# Altium integrated library ZMDI LED Drivers.IntLib: 15 symbols
Pins are listed as number, name and electrical type; pins without a type are passive.

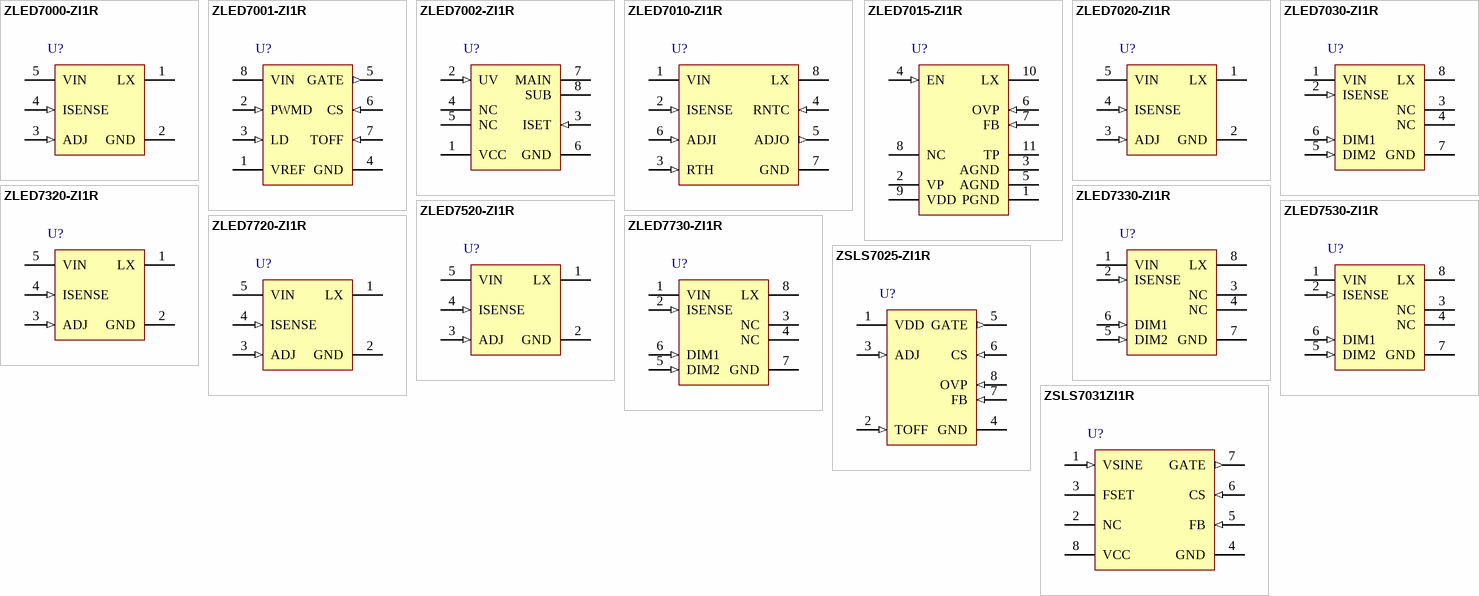
[diagram p0: symbols ZLED7000-ZI1R to ZSLS7031ZI1R]

## ZLED7000-ZI1R
designator U?
40 V LED Driver with Internal Switch, 6 to 40 V Supply Voltage, -40 to 85 degC, 5-Pin SOT89, Tape & Reel, RoHS; Manufacturer: ZMDI; PartNumber: ZLED7000-ZI1R; LED Current per Output (mA): 750; Number of Outputs: 1; Supply Voltage (V): 6 to 40; DatasheetVersion: Rev. 1.1; PackageReference: SOT89-5; PackageDescription: 5-Pin Plastic Small Outline, 4.5 x 2.45 mm Body, 1.5 mm Pitch; Supplier 1: Farnell; Supplier Part Number 1: 1898426RL; Supplier 2: Farnell; Supplier Part Number 2: 1898426; Supplier 3: Newark; Supplier Part Number 3: 55T4034; Package: SOT89-5; Packing: Tape & Reel; RoHS: TRUE; Mounting Technology: Surface Mount; ComponentLink1Description: Manufacturer URL; ComponentLink1URL: http://www.zmdi.com/; ComponentLink2Description: Datasheet; ComponentLink2URL: http://www.zmdi.com/sites/default/files/ZLED7000_DataSheet_Rev1.1.pdf; ComponentLink3Description: Package Specification; ComponentLink3URL: http://www.zmdi.com/sites/default/files/ZLED7020_Data_Sheet_rev1.2_01.pdf
footprint ZMDI-SOT89-5_V (SOT, 5-Leads, Body 4.6x2.6mm, Pitch 1.5mm)
pins: 1 LX (power) "Power switch drain", 2 GND (power) "Ground (0V)", 3 ADJ (in) "Output current control pin", 4 ISENSE (in) "Nominal average output current is set by the value of a resistor RS connected from ISENSE to VIN", 5 VIN (power) "Supply voltage (6V to 40V)"

## ZLED7001-ZI1R
designator U?
Universal LED Driver with Temperature Compensation, 8 to 450 V Supply Voltage, -40 to 85 degC, 8-Pin SOP, Tape & Reel, RoHS; Manufacturer: ZMDI; PartNumber: ZLED7001-ZI1R; Number of Outputs: 1; Supply Voltage (V): 8 to 450; DatasheetVersion: Rev. 1.1; PackageReference: SOP-8; PackageDescription: 8-Pin Plastic Small Outline, 4.9 x 3.9 mm Body, 1.27 mm Pitch; Supplier 1: Farnell; Supplier Part Number 1: 1898430; Supplier 2: Newark; Supplier Part Number 2: 55T4035; Supplier 3: Mouser; Supplier Part Number 3: 964-ZLED7001ZI1R; Package: SOP8; Packing: Tape & Reel; RoHS: TRUE; Mounting Technology: Surface Mount; ComponentLink1Description: Manufacturer URL; ComponentLink1URL: http://www.zmdi.com/; ComponentLink2Description: Datasheet; ComponentLink2URL: http://www.zmdi.com/sites/default/files/ZLED7001_Data_Sheet_Rev_1.1.pdf; ComponentLink3Description: Package Specification; ComponentLink3URL: http://www.zmdi.com/sites/default/files/ZLED7001_Data_Sheet_Rev_1.1.pdf
footprint ZMDI-SOP-8_N (SOP, 8-Leads, Body 5x4mm, Pitch 1.27mm, IPC Medium Density)
footprint ZMDI-SOP-8_L (SOP, 8-Leads, Body 5x4mm, Pitch 1.27mm, IPC High Density)
footprint ZMDI-SOP-8_M (SOP, 8-Leads, Body 5x4mm, Pitch 1.27mm, IPC Low Density)
pins: 1 VREF "1.2V reference voltage. No bypass capacitor needed.", 2 PWMD (in) "PWM dimming input. The gate driver operates normally if PWMD is pulled high. The gate driver is turned off if PWMD is pulled to GND or open.", 3 LD (in) "Linear dimming input. If the voltage at LD is < 240mV (typical), LD controls the current sense threshold. Can also be used as temperature compensation threshold voltage.", 4 GND (power) "Internal circuit ground reference. Electrical connection to ground is required.", 5 GATE (out) "Output for external N-channel power MOSFET gate driver.", 6 CS (in) "Current sense pin that senses the Q1 MOSFET drain current through external resistor RCS. The GATE output goes low if the voltage at CS > the voltage at the LD pin or the internal 240mV.", 7 TOFF (in) "Sets the off-time of the power MOSFET. If left floating, off-time will be 510ns. For increased off-time, a capacitor must be connected between TOFF and GND.", 8 VIN (power) "Supply input of 8V to 450V through a resistor, clamped at 7.1V internally. Low-ESR bypass capacitor to GND is required."

## ZLED7002-ZI1R
designator U?
Toggle (Side-Step) Dual-Channel LED Driver, 2.7 to 5.5 V Supply Voltage, -25 to 85 degC, 8-Pin SOP, Tape & Reel, RoHS; Manufacturer: ZMDI; PartNumber: ZLED7002-ZI1R; Number of Outputs: 2; DatasheetVersion: Rev. 3.0; PackageReference: SOP-8; PackageDescription: 8-Pin Plastic Small Outline, 4.9 x 3.9 mm Body, 1.27 mm Pitch; Supplier 1: Farnell; Supplier Part Number 1: 1962064; Package: SOP8; Packing: Tape & Reel; RoHS: TRUE; Supply Voltage (V): 2.7 to 5.5; Mounting Technology: Surface Mount; ComponentLink1Description: Manufacturer URL; ComponentLink1URL: http://www.zmdi.com/; ComponentLink2Description: Datasheet; ComponentLink2URL: http://www.zmdi.com/sites/default/files/ZLED7002_Data_Sheet_v3_02.pdf; ComponentLink3Description: Package Specification; ComponentLink3URL: http://www.zmdi.com/sites/default/files/ZLED7001_Data_Sheet_Rev_1.1.pdf
footprint ZMDI-SOP-8_N (SOP, 8-Leads, Body 5x4mm, Pitch 1.27mm, IPC Medium Density)
footprint ZMDI-SOP-8_L (SOP, 8-Leads, Body 5x4mm, Pitch 1.27mm, IPC High Density)
footprint ZMDI-SOP-8_M (SOP, 8-Leads, Body 5x4mm, Pitch 1.27mm, IPC Low Density)
pins: 1 VCC (power) "Power supply (2.7V to 5.5V).", 2 UV (in) "Under-voltage detection input.", 3 ISET (in) "Input for external resistor that sets the current for the MAIN LED channel.", 4 NC "No connection.", 5 NC "No connection.", 6 GND (power) "Connect to ground.", 7 MAIN (power) "MAIN channel constant current source. Connect to cathode of MAIN LED.", 8 SUB (power) "SUB channel current sink. Connect to cathode of D1 (Zener diode) connected to cathode of SUB LED."

## ZLED7010-ZI1R
designator U?
40 V LED Driver with Temperature Compensation, 6 to 40 V Supply Voltage, -40 to 85 degC, 8-Pin SOP, Tape & Reel, RoHS; Manufacturer: ZMDI; PartNumber: ZLED7010-ZI1R; LED Current per Output (mA): 750; Number of Outputs: 1; Supply Voltage (V): 6 to 40; DatasheetVersion: Rev. 1.1; PackageReference: SOP-8; PackageDescription: 8-Pin Plastic Small Outline, 4.9 x 3.9 mm Body, 1.27 mm Pitch; Supplier 1: Farnell; Supplier Part Number 1: 1898427; Supplier 2: Newark; Supplier Part Number 2: 55T4036; Package: SOP-8; Packing: Tape & Reel; RoHS: TRUE; Mounting Technology: Surface Mount; ComponentLink1Description: Manufacturer URL; ComponentLink1URL: http://www.zmdi.com/; ComponentLink2Description: Datasheet; ComponentLink2URL: http://www.zmdi.com/sites/default/files/ZLED7010_DataSheet_Rev_1.1.pdf; ComponentLink3Description: Package Specification; ComponentLink3URL: http://www.zmdi.com/sites/default/files/ZLED7001_Data_Sheet_Rev_1.1.pdf
footprint ZMDI-SOP-8_N (SOP, 8-Leads, Body 5x4mm, Pitch 1.27mm, IPC Medium Density)
footprint ZMDI-SOP-8_L (SOP, 8-Leads, Body 5x4mm, Pitch 1.27mm, IPC High Density)
footprint ZMDI-SOP-8_M (SOP, 8-Leads, Body 5x4mm, Pitch 1.27mm, IPC Low Density)
pins: 1 VIN (power) "Supply voltage (6V to 40V)", 2 ISENSE (in) "Nominal average output current is set by the value of a resistor RS connected from ISENSE to VIN.", 3 RTH (in) "Threshold input from external temperature sensing network. Sets the starting temperature of temperature compensation via an external resistor.", 4 RNTC (in) "NTC input from external temperature sensing network.", 5 ADJO (out) "Output for control signal for LED driver chain applications", 6 ADJI (in) "Output current control pin", 7 GND (power) "Ground (0V)", 8 LX (power) "Power switch drain"

## ZLED7015-ZI1R
designator U?
1.0 MHz Boost Converter with Internal 35 V Switch, 6 to 30 V Supply Voltage, -40 to 85 degC, 10-Pin MSOP, Tape & Reel, RoHS; Manufacturer: ZMDI; PartNumber: ZLED7015-ZI1R; Number of Outputs: 1; Supply Voltage (V): 6 to 30; DatasheetVersion: Rev. 1.00; PackageReference: MSOP-10; PackageDescription: 10-Pin Mini Small Outline Package, 3 x 3 mm Body, 0.5 mm Pitch, 1.8 x 1.55 mm Exposed Pad; Supplier 1: Farnell; Supplier Part Number 1: 2094167; Supplier 2: Newark; Supplier Part Number 2: 89T9203; Package: MSOP-10; Packing: Tape & Reel; RoHS: TRUE; Mounting Technology: Surface Mount; ComponentLink1Description: Manufacturer URL; ComponentLink1URL: http://www.zmdi.com/; ComponentLink2Description: Datasheet; ComponentLink2URL: http://www.zmdi.com/sites/default/files/ZLED7015_Data_Sheet_Rev1_00.pdf; ComponentLink3Description: Package Specification; ComponentLink3URL: http://www.zmdi.com/sites/default/files/ZLED7015_Data_Sheet_Rev1_00.pdf
footprint ZMDI-MSOP-10_N (SOP, 10-Leads, Body 3.1x3.1mm, Pitch 0.5mm, Thermal Pad 1.8x1.55mm, IPC Medium Density)
footprint ZMDI-MSOP-10_L (SOP, 10-Leads, Body 3.1x3.1mm, Pitch 0.5mm, Thermal Pad 1.8x1.55mm, IPC High Density)
footprint ZMDI-MSOP-10_M (SOP, 10-Leads, Body 3.1x3.1mm, Pitch 0.5mm, Thermal Pad 1.8x1.55mm, IPC Low Density)
pins: 1 PGND (power) "Power ground", 2 VP (power) "Internal 5V linear regulator output. VP is the power supply for the internal switch gate driver and the internal control circuitry. Use a 10uF ceramic bypass capacitor between VP and ground.", 3 AGND (power) "Analog (signal) ground.", 4 EN (in) "Enable control input. Important: Do not allow this pin to float.", 5 AGND (power) "Analog (signal) ground.", 6 OVP (in) "Over-voltage protection control input.", 7 FB (in) "Feedback voltage input. The nominal average output current is set by the value of RS connected from FB to GND - see section 2.2.1 for details. Important: Do not allow the FB pin to float.", 8 NC "No connection", 9 VDD (power) "Supply voltage (6V to 30V)-see section 7 for layout considerations.", 10 LX (power) "Drain of the internal switch. Connect the power inductor between LX and the power supply. Connect the output rectifier D1 between LX and the output circuit. See section1.1 for output range specifications.", 11 TP (power) "Connect to ground."

## ZLED7020-ZI1R
designator U?
High Current 40 V LED Driver with Internal Switch, 6 to 40 V Supply Voltage, -40 to 105 degC, 5-Pin SOT89, Tape & Reel, RoHS; Manufacturer: ZMDI; PartNumber: ZLED7020-ZI1R; LED Current per Output (mA): 1200; Number of Outputs: 1; Supply Voltage (V): 6 to 40; DatasheetVersion: Rev. 1.2; PackageReference: SOT89-5; PackageDescription: 5-Pin Plastic Small Outline, 4.5 x 2.45 mm Body, 1.5 mm Pitch; Supplier 1: Farnell; Supplier Part Number 1: 1898428; Supplier 2: Newark; Supplier Part Number 2: 55T4038; Package: SOT89-5; Packing: Tape & Reel; RoHS: TRUE; Mounting Technology: Surface Mount; ComponentLink1Description: Manufacturer URL; ComponentLink1URL: http://www.zmdi.com/; ComponentLink2Description: Datasheet; ComponentLink2URL: http://www.zmdi.com/sites/default/files/ZLED7020_Data_Sheet_rev1.2_01.pdf; ComponentLink3Description: Package Specification; ComponentLink3URL: http://www.zmdi.com/sites/default/files/ZLED7020_Data_Sheet_rev1.2_01.pdf
footprint ZMDI-SOT89-5_V (SOT, 5-Leads, Body 4.6x2.6mm, Pitch 1.5mm)
pins: 1 LX (power) "Drain of internal power switch", 2 GND (power) "Ground", 3 ADJ (in) "On/off and brightness control input", 4 ISENSE (in) "Current adjustment input. Resistor RS from ISENSE to VIN determines the nominal average output current. IOUTnom =0.1V/RS", 5 VIN (power) "Input voltage (6V to 40V)."

## ZLED7030-ZI1R
designator U?
High Current 40 V LED Driver with Switch Dimming, 8.5 to 40 V Supply Voltage, -40 to 105 degC, 8-Pin SOP, Tape & Reel, RoHS; Manufacturer: ZMDI; PartNumber: ZLED7030-ZI1R; LED Current per Output (mA): 1200; Number of Outputs: 1; DatasheetVersion: Rev. 1.2; PackageReference: SOP-8; PackageDescription: 8-Pin Plastic Small Outline, 4.9 x 3.9 mm Body, 1.27 mm Pitch; Supplier 1: Farnell; Supplier Part Number 1: 1898429; Supplier 2: Newark; Supplier Part Number 2: 55T4040; Package: SOP-8; Packing: Tape & Reel; RoHS: TRUE; Supply Voltage (V): 8.5 to 40; Mounting Technology: Surface Mount; ComponentLink1Description: Manufacturer URL; ComponentLink1URL: http://www.zmdi.com/; ComponentLink2Description: Datasheet; ComponentLink2URL: http://www.zmdi.com/sites/default/files/ZLED7030_Data_Sheet_rev1.2.pdf; ComponentLink3Description: Package Specification; ComponentLink3URL: http://www.zmdi.com/sites/default/files/ZLED7001_Data_Sheet_Rev_1.1.pdf
footprint ZMDI-SOP-8_N (SOP, 8-Leads, Body 5x4mm, Pitch 1.27mm, IPC Medium Density)
footprint ZMDI-SOP-8_L (SOP, 8-Leads, Body 5x4mm, Pitch 1.27mm, IPC High Density)
footprint ZMDI-SOP-8_M (SOP, 8-Leads, Body 5x4mm, Pitch 1.27mm, IPC Low Density)
pins: 1 VIN (power) "Input voltage (8.5V to 40V).", 2 ISENSE (in) "Current adjustment input. Resistor RS from ISENSE to VIN determines the nominal average output current. IOUTnom =0.1V/RS", 3 NC "Not connected; keep floating.", 4 NC "Not connected; keep floating.", 5 DIM2 (in) "Set the number of current levels and current ratio of each level of switch dimming function as follows", 6 DIM1 (in) "Set the number of current levels and current ratio of each level of switch dimming function as follows", 7 GND (power) "Connect to GND.", 8 LX (power) "Drain of internal power switch"

## ZLED7320-ZI1R
designator U?
High Current 40 V LED Driver with Internal Switch, 6 to 40 V Supply Voltage, -40 to 105 degC, 5-Pin DFN, Tape & Reel, RoHS; Manufacturer: ZMDI; PartNumber: ZLED7320-ZI1R; LED Current per Output (mA): 1000; Number of Outputs: 1; Supply Voltage (V): 6 to 40; DatasheetVersion: Rev. 1.2; PackageReference: DFN-5; PackageDescription: 5-Pin Dual Flatpack No Leads, 4 x 4 mm Body, 1.5 mm Pitch; Supplier 1: Farnell; Supplier Part Number 1: 1962065RL; Supplier 2: Farnell; Supplier Part Number 2: 1962065; Supplier 3: Newark; Supplier Part Number 3: 58T2356; Package: DFN-5; Packing: Tape & Reel; RoHS: TRUE; Mounting Technology: Surface Mount; ComponentLink1Description: Manufacturer URL; ComponentLink1URL: http://www.zmdi.com/; ComponentLink2Description: Datasheet; ComponentLink2URL: http://www.zmdi.com/sites/default/files/ZLED7020_Data_Sheet_rev1.2_01.pdf; ComponentLink3Description: Package Specification; ComponentLink3URL: http://www.zmdi.com/sites/default/files/ZLED7020_Data_Sheet_rev1.2_01.pdf
footprint ZMDI-DFN-5_V (DFN, 5-Leads, Body 4.05x4.05mm, Pitch 1.5mm)
pins: 1 LX (power) "Drain of internal power switch", 2 GND (power) "Ground", 3 ADJ (in) "On/off and brightness control input", 4 ISENSE (in) "Current adjustment input. Resistor RS from ISENSE to VIN determines the nominal average output current. IOUTnom =0.1V/RS", 5 VIN (power) "Input voltage (6V to 40V)."

## ZLED7330-ZI1R
designator U?
High Current 40 V LED Driver with Switch Dimming, 8.5 to 40 V Supply Voltage, -40 to 105 degC, 8-Pin SOP, Tape & Reel, RoHS; Manufacturer: ZMDI; PartNumber: ZLED7330-ZI1R; LED Current per Output (mA): 1000; Number of Outputs: 1; DatasheetVersion: Rev. 1.2; PackageReference: SOP-8; PackageDescription: 8-Pin Plastic Small Outline, 4.9 x 3.9 mm Body, 1.27 mm Pitch; Supplier 1: Farnell; Supplier Part Number 1: 1962066; Package: SOP-8; Packing: Tape & Reel; RoHS: TRUE; Supply Voltage (V): 8.5 to 40; Mounting Technology: Surface Mount; ComponentLink1Description: Manufacturer URL; ComponentLink1URL: http://www.zmdi.com/; ComponentLink2Description: Datasheet; ComponentLink2URL: http://www.zmdi.com/sites/default/files/ZLED7030_Data_Sheet_rev1.2.pdf; ComponentLink3Description: Package Specification; ComponentLink3URL: http://www.zmdi.com/sites/default/files/ZLED7001_Data_Sheet_Rev_1.1.pdf
footprint ZMDI-SOP-8_N (SOP, 8-Leads, Body 5x4mm, Pitch 1.27mm, IPC Medium Density)
footprint ZMDI-SOP-8_L (SOP, 8-Leads, Body 5x4mm, Pitch 1.27mm, IPC High Density)
footprint ZMDI-SOP-8_M (SOP, 8-Leads, Body 5x4mm, Pitch 1.27mm, IPC Low Density)
pins: 1 VIN (power) "Input voltage (8.5V to 40V).", 2 ISENSE (in) "Current adjustment input. Resistor RS from ISENSE to VIN determines the nominal average output current. IOUTnom =0.1V/RS", 3 NC "Not connected; keep floating.", 4 NC "Not connected; keep floating.", 5 DIM2 (in) "Set the number of current levels and current ratio of each level of switch dimming function as follows", 6 DIM1 (in) "Set the number of current levels and current ratio of each level of switch dimming function as follows", 7 GND (power) "Connect to GND.", 8 LX (power) "Drain of internal power switch"

## ZLED7520-ZI1R
designator U?
High Current 40 V LED Driver with Internal Switch, 6 to 40 V Supply Voltage, -40 to 105 degC, 5-Pin DFN, Tape & Reel, RoHS; Manufacturer: ZMDI; PartNumber: ZLED7520-ZI1R; LED Current per Output (mA): 750; Number of Outputs: 1; Supply Voltage (V): 6 to 40; DatasheetVersion: Rev. 1.2; PackageReference: DFN-5; PackageDescription: 5-Pin Dual Flatpack No Leads, 4 x 4 mm Body, 1.5 mm Pitch; Supplier 1: Farnell; Supplier Part Number 1: 2068101; Supplier 2: Newark; Supplier Part Number 2: 74T0220; Package: DFN-5; Packing: Tape & Reel; RoHS: TRUE; Mounting Technology: Surface Mount; ComponentLink1Description: Manufacturer URL; ComponentLink1URL: http://www.zmdi.com/; ComponentLink2Description: Datasheet; ComponentLink2URL: http://www.zmdi.com/sites/default/files/ZLED7020_Data_Sheet_rev1.2_01.pdf; ComponentLink3Description: Package Specification; ComponentLink3URL: http://www.zmdi.com/sites/default/files/ZLED7020_Data_Sheet_rev1.2_01.pdf
footprint ZMDI-DFN-5_V (DFN, 5-Leads, Body 4.05x4.05mm, Pitch 1.5mm)
pins: 1 LX (power) "Drain of internal power switch", 2 GND (power) "Ground", 3 ADJ (in) "On/off and brightness control input", 4 ISENSE (in) "Current adjustment input. Resistor RS from ISENSE to VIN determines the nominal average output current. IOUTnom =0.1V/RS", 5 VIN (power) "Input voltage (6V to 40V)."

## ZLED7530-ZI1R
designator U?
High Current 40 V LED Driver with Switch Dimming, 8.5 to 40 V Supply Voltage, -40 to 105 degC, 8-Pin SOP, Tape & Reel, RoHS; Manufacturer: ZMDI; PartNumber: ZLED7530-ZI1R; LED Current per Output (mA): 750; Number of Outputs: 1; DatasheetVersion: Rev. 1.2; PackageReference: SOP-8; PackageDescription: 8-Pin Plastic Small Outline, 4.9 x 3.9 mm Body, 1.27 mm Pitch; Supplier 1: Farnell; Supplier Part Number 1: 2068104; Package: SOP-8; Packing: Tape & Reel; RoHS: TRUE; Supply Voltage (V): 8.5 to 40; Mounting Technology: Surface Mount; ComponentLink1Description: Manufacturer URL; ComponentLink1URL: http://www.zmdi.com/; ComponentLink2Description: Datasheet; ComponentLink2URL: http://www.zmdi.com/sites/default/files/ZLED7030_Data_Sheet_rev1.2.pdf; ComponentLink3Description: Package Specification; ComponentLink3URL: http://www.zmdi.com/sites/default/files/ZLED7001_Data_Sheet_Rev_1.1.pdf
footprint ZMDI-SOP-8_N (SOP, 8-Leads, Body 5x4mm, Pitch 1.27mm, IPC Medium Density)
footprint ZMDI-SOP-8_L (SOP, 8-Leads, Body 5x4mm, Pitch 1.27mm, IPC High Density)
footprint ZMDI-SOP-8_M (SOP, 8-Leads, Body 5x4mm, Pitch 1.27mm, IPC Low Density)
pins: 1 VIN (power) "Input voltage (8.5V to 40V).", 2 ISENSE (in) "Current adjustment input. Resistor RS from ISENSE to VIN determines the nominal average output current. IOUTnom =0.1V/RS", 3 NC "Not connected; keep floating.", 4 NC "Not connected; keep floating.", 5 DIM2 (in) "Set the number of current levels and current ratio of each level of switch dimming function as follows", 6 DIM1 (in) "Set the number of current levels and current ratio of each level of switch dimming function as follows", 7 GND (power) "Connect to GND.", 8 LX (power) "Drain of internal power switch"

## ZLED7720-ZI1R
designator U?
High Current 40 V LED Driver with Internal Switch, 6 to 40 V Supply Voltage, -40 to 105 degC, 5-Pin DFN, Tape & Reel, RoHS; Manufacturer: ZMDI; PartNumber: ZLED7720-ZI1R; LED Current per Output (mA): 350; Number of Outputs: 1; Supply Voltage (V): 6 to 40; DatasheetVersion: Rev. 1.2; PackageReference: DFN-5; PackageDescription: 5-Pin Dual Flatpack No Leads, 4 x 4 mm Body, 1.5 mm Pitch; Supplier 1: Farnell; Supplier Part Number 1: 2068103RL; Supplier 2: Farnell; Supplier Part Number 2: 2068103; Supplier 3: Newark; Supplier Part Number 3: 74T0222; Package: DFN-5; Packing: Tape & Reel; RoHS: TRUE; Mounting Technology: Surface Mount; ComponentLink1Description: Manufacturer URL; ComponentLink1URL: http://www.zmdi.com/; ComponentLink2Description: Datasheet; ComponentLink2URL: http://www.zmdi.com/sites/default/files/ZLED7020_Data_Sheet_rev1.2_01.pdf; ComponentLink3Description: Package Specification; ComponentLink3URL: http://www.zmdi.com/sites/default/files/ZLED7020_Data_Sheet_rev1.2_01.pdf
footprint ZMDI-DFN-5_V (DFN, 5-Leads, Body 4.05x4.05mm, Pitch 1.5mm)
pins: 1 LX (power) "Drain of internal power switch", 2 GND (power) "Ground", 3 ADJ (in) "On/off and brightness control input", 4 ISENSE (in) "Current adjustment input. Resistor RS from ISENSE to VIN determines the nominal average output current. IOUTnom =0.1V/RS", 5 VIN (power) "Input voltage (6V to 40V)."

## ZLED7730-ZI1R
designator U?
High Current 40 V LED Driver with Switch Dimming, 8.5 to 40 V Supply Voltage, -40 to 105 degC, 8-Pin SOP, Tape & Reel, RoHS; Manufacturer: ZMDI; PartNumber: ZLED7730-ZI1R; LED Current per Output (mA): 350; Number of Outputs: 1; DatasheetVersion: Rev. 1.2; PackageReference: SOP-8; PackageDescription: 8-Pin Plastic Small Outline, 4.9 x 3.9 mm Body, 1.27 mm Pitch; Supplier 1: Farnell; Supplier Part Number 1: 2068105; Package: SOP-8; Packing: Tape & Reel; RoHS: TRUE; Supply Voltage (V): 8.5 to 40; Mounting Technology: Surface Mount; ComponentLink1Description: Manufacturer URL; ComponentLink1URL: http://www.zmdi.com/; ComponentLink2Description: Datasheet; ComponentLink2URL: http://www.zmdi.com/sites/default/files/ZLED7030_Data_Sheet_rev1.2.pdf; ComponentLink3Description: Package Specification; ComponentLink3URL: http://www.zmdi.com/sites/default/files/ZLED7001_Data_Sheet_Rev_1.1.pdf
footprint ZMDI-SOP-8_N (SOP, 8-Leads, Body 5x4mm, Pitch 1.27mm, IPC Medium Density)
footprint ZMDI-SOP-8_L (SOP, 8-Leads, Body 5x4mm, Pitch 1.27mm, IPC High Density)
footprint ZMDI-SOP-8_M (SOP, 8-Leads, Body 5x4mm, Pitch 1.27mm, IPC Low Density)
pins: 1 VIN (power) "Input voltage (8.5V to 40V).", 2 ISENSE (in) "Current adjustment input. Resistor RS from ISENSE to VIN determines the nominal average output current. IOUTnom =0.1V/RS", 3 NC "Not connected; keep floating.", 4 NC "Not connected; keep floating.", 5 DIM2 (in) "Set the number of current levels and current ratio of each level of switch dimming function as follows", 6 DIM1 (in) "Set the number of current levels and current ratio of each level of switch dimming function as follows", 7 GND (power) "Connect to GND.", 8 LX (power) "Drain of internal power switch"

## ZSLS7025-ZI1R
designator U?
Boost LED Driver, 5 to 100 V Supply Voltage, -40 to 125 degC, 8-Pin SOP, Tape & Reel, RoHS; Manufacturer: ZMDI; PartNumber: ZSLS7025-ZI1R; Number of Outputs: 1; Supply Voltage (V): 5 to 100; DatasheetVersion: Rev. 1.00; PackageReference: SOP-8; PackageDescription: 8-Pin Plastic Small Outline, 4.9 x 3.9 mm Body, 1.27 mm Pitch; Supplier 1: Farnell; Supplier Part Number 1: 2143146; Supplier 2: Mouser; Supplier Part Number 2: 964-ZSLS7025ZI1R; Package: SOP8; Packing: Tape & Reel; RoHS: TRUE; Mounting Technology: Surface Mount; ComponentLink1Description: Manufacturer URL; ComponentLink1URL: http://www.zmdi.com/; ComponentLink2Description: Datasheet; ComponentLink2URL: http://www.zmdi.com/sites/default/files/ZSLS7025_Data_Sheet_rev1_00.pdf; ComponentLink3Description: Package Specification; ComponentLink3URL: http://www.zmdi.com/sites/default/files/ZLED7001_Data_Sheet_Rev_1.1.pdf
footprint ZMDI-SOP-8_N (SOP, 8-Leads, Body 5x4mm, Pitch 1.27mm, IPC Medium Density)
footprint ZMDI-SOP-8_L (SOP, 8-Leads, Body 5x4mm, Pitch 1.27mm, IPC High Density)
footprint ZMDI-SOP-8_M (SOP, 8-Leads, Body 5x4mm, Pitch 1.27mm, IPC Low Density)
pins: 1 VDD (power) "Positive power supply input pin. Internally clamped at 5V (typical).", 2 TOFF (in) "Pin for setting off time. An external resistor, RTOFF, connected to this pin forms an RC discharge path to generate the constant minimum off time of the Q1 external MOSFET.", 3 ADJ (in) "Enable and input peak current control pin. This pin is pulled up to 4.5V internally to set VCS_TH =0.24V if ADJ is floating. If VADJ<0.5V, the Q1 external MOSFET shuts down. If 0.5 ? VADJ ? 2.4V, VCS_TH = VADJ/10.(See Datasheet)", 4 GND (power) "Ground.", 5 GATE (out) "Driver抯 output for the gate of the Q1 external MOSFET.", 6 CS (in) "Current sense input for the boost, peak-current control loop.", 7 FB (in) "Feedback voltage input pin. Used to regulate the current of the LEDs by keeping VFB=0.3V.", 8 OVP (in) "Overvoltage protection input pin. If the voltage at OVP exceeds the over-voltage input threshold, VOVP_TH, the GATE output shuts down."

## ZSLS7031ZI1R
designator U?
Isolated and Non-isolated Flyback LED Driver with Active PFC, 9 to 22 V Supply Voltage, -45 to 105 degC, 8-Pin MSOP, Tape & Reel, RoHS; Manufacturer: ZMDI; PartNumber: ZSLS7031ZI1R; Number of Outputs: 1; Supply Voltage (V): 9 to 22; DatasheetVersion: Rev. 1.00; PackageReference: MSOP-8; PackageDescription: 8-Pin Mini Small Outline Package, 3 x 3 mm Body, 0.65 mm Pitch; Supplier 1: Mouser; Supplier Part Number 1: 964-ZSLS7031ZI1R; Package: MSOP-8; Packing: Tape & Reel; RoHS: TRUE; Mounting Technology: Surface Mount; ComponentLink1Description: Manufacturer URL; ComponentLink1URL: http://www.zmdi.com/; ComponentLink2Description: Datasheet; ComponentLink2URL: http://zmdi.cdistore.com/datasheets/zmdi/ZSLS7031_Data_Sheet_rev1_00_2013-05-07.pdf; ComponentLink3Description: Package Specification; ComponentLink3URL: http://zmdi.cdistore.com/datasheets/zmdi/ZSLS7031_Data_Sheet_rev1_00_2013-05-07.pdf
footprint ZMDI-MSOP-8_N (SOP, 8-Leads, Body 3.1x3.1mm, Pitch 0.65mm, IPC Medium Density)
footprint ZMDI-MSOP-8_L (SOP, 8-Leads, Body 3.1x3.1mm, Pitch 0.65mm, IPC High Density)
footprint ZMDI-MSOP-8_M (SOP, 8-Leads, Body 3.1x3.1mm, Pitch 0.65mm, IPC Low Density)
pins: 1 VSINE (in) "Line voltage sense input required for PFC.", 2 NC "Not connected. Leave floating in the application.", 3 FSET "Connect a resistor from this pin to GND to set the operating frequency.", 4 GND (power) "Ground. Common potential to all internal circuitry.", 5 FB (in) "Auxiliary winding voltage sensing pin for OVP.", 6 CS (in) "Primary winding peak current sensing input.", 7 GATE (out) "External power NMOS gate driving output.", 8 VCC (power) "Internal circuit power supply input."